# Altium schematic symbol library Amp_Power MOSFET Driver_ICL7667_1.Schlib: 1 symbol
Pins are listed as number, name and electrical type; pins without a type are passive.

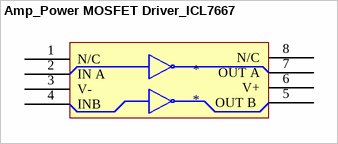
[diagram p0: symbol Amp_Power MOSFET Driver_ICL7667]

## Amp_Power MOSFET Driver_ICL7667
designator *
footprint SOIC127P600X175-8N (SOIC, 8-Leads, Body 4.90x3.90mm, Pitch 1.27mm, IPC Medium Density)
pins: 1 N/C, 2 IN A, 3 V-, 4 INB, 5 OUT B , 6 V+, 7 OUT A, 8 N/C